# EAGLE library part ADUC7026 (library aduc-arm7)
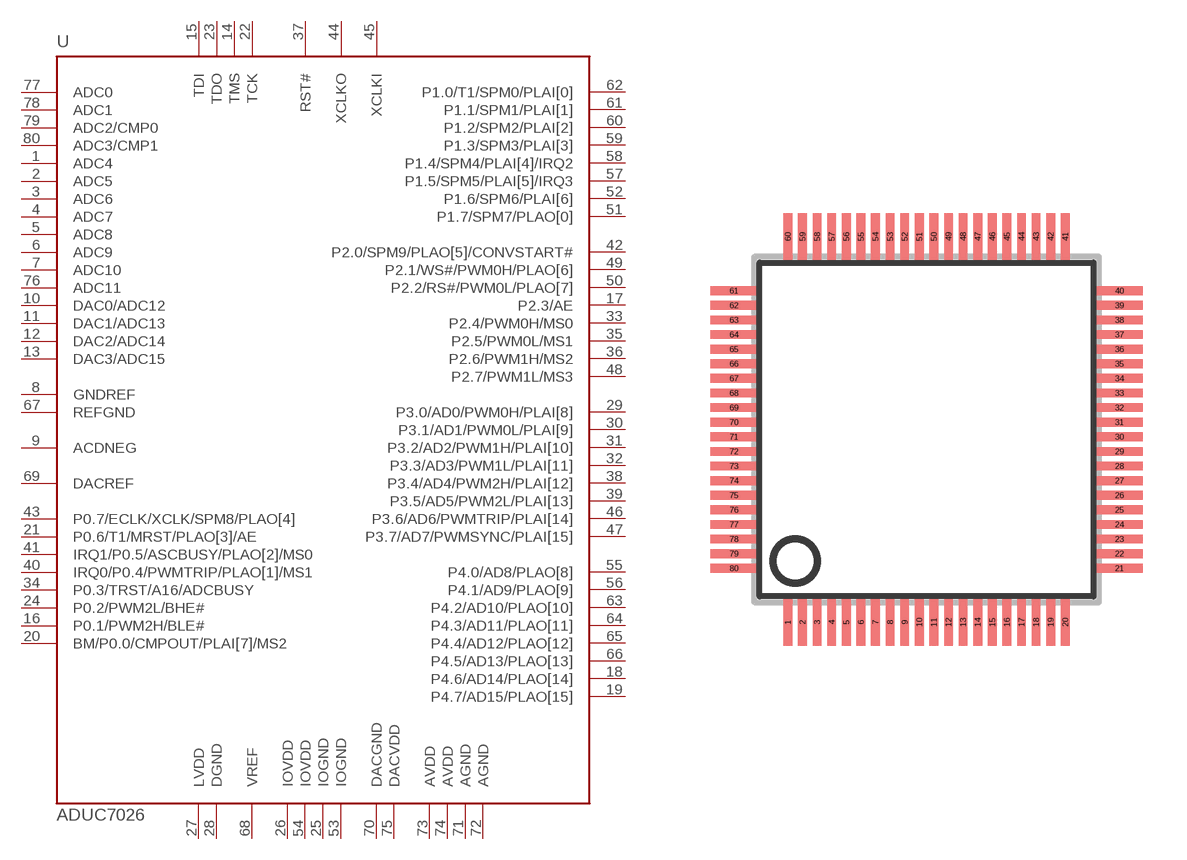
[diagram p0: symbol with the pads of SQFP-S-12X12-80; footprint SQFP-S-12X12-80]

Designator prefix -

## ADUC7026  [SQFP-S-12X12-80]
1  ADC4  in
2  ADC5  in
3  ADC6  in
4  ADC7  in
5  ADC8  in
6  ADC9  in
7  ADC10  in
8  GNDREF  in
9  ACDNEG
10  DAC0/ADC12
11  DAC1/ADC13
12  DAC2/ADC14
13  DAC3/ADC15
14  TMS  in
15  TDI  in
16  P0.1/PWM2H/BLE#
17  P2.3/AE
18  P4.6/AD14/PLAO[14]
19  P4.7/AD15/PLAO[15]
20  BM/P0.0/CMPOUT/PLAI[7]/MS2
21  P0.6/T1/MRST/PLAO[3]/AE
22  TCK  in
23  TDO  out
24  P0.2/PWM2L/BHE#
25  IOGND  pwr
26  IOVDD  pwr
27  LVDD  pwr
28  DGND  pwr
29  P3.0/AD0/PWM0H/PLAI[8]
30  P3.1/AD1/PWM0L/PLAI[9]
31  P3.2/AD2/PWM1H/PLAI[10]
32  P3.3/AD3/PWM1L/PLAI[11]
33  P2.4/PWM0H/MS0
34  P0.3/TRST/A16/ADCBUSY
35  P2.5/PWM0L/MS1
36  P2.6/PWM1H/MS2
37  RST#  in
38  P3.4/AD4/PWM2H/PLAI[12]
39  P3.5/AD5/PWM2L/PLAI[13]
40  IRQ0/P0.4/PWMTRIP/PLAO[1]/MS1
41  IRQ1/P0.5/ASCBUSY/PLAO[2]/MS0
42  P2.0/SPM9/PLAO[5]/CONVSTART#
43  P0.7/ECLK/XCLK/SPM8/PLAO[4]
44  XCLKO  out
45  XCLKI  in
46  P3.6/AD6/PWMTRIP/PLAI[14]
47  P3.7/AD7/PWMSYNC/PLAI[15]
48  P2.7/PWM1L/MS3
49  P2.1/WS#/PWM0H/PLAO[6]
50  P2.2/RS#/PWM0L/PLAO[7]
51  P1.7/SPM7/PLAO[0]
52  P1.6/SPM6/PLAI[6]
53  IOGND  pwr
54  IOVDD  pwr
55  P4.0/AD8/PLAO[8]
56  P4.1/AD9/PLAO[9]
57  P1.5/SPM5/PLAI[5]/IRQ3
58  P1.4/SPM4/PLAI[4]/IRQ2
59  P1.3/SPM3/PLAI[3]
60  P1.2/SPM2/PLAI[2]
61  P1.1/SPM1/PLAI[1]
62  P1.0/T1/SPM0/PLAI[0]
63  P4.2/AD10/PLAO[10]
64  P4.3/AD11/PLAO[11]
65  P4.4/AD12/PLAO[12]
66  P4.5/AD13/PLAO[13]
67  REFGND  in
68  VREF  pwr
69  DACREF
70  DACGND  pwr
71  AGND  pwr
72  AGND  pwr
73  AVDD  pwr
74  AVDD  pwr
75  DACVDD  pwr
76  ADC11  in
77  ADC0  in
78  ADC1  in
79  ADC2/CMP0
80  ADC3/CMP1

## Footprint SQFP-S-12X12-80 (pad centres in mm)
QFP80 shrink quad flat pack, square
smd 0.3 x 1.6: 1 -4.75,-6.6; 2 -4.25,-6.6; 3 -3.75,-6.6; 4 -3.25,-6.6; 5 -2.75,-6.6; 6 -2.25,-6.6; 7 -1.75,-6.6; 8 -1.25,-6.6; 9 -0.75,-6.6; 10 -0.25,-6.6; 11 0.25,-6.6; 12 0.75,-6.6; 13 1.25,-6.6; 14 1.75,-6.6; 15 2.25,-6.6; 16 2.75,-6.6; 17 3.25,-6.6; 18 3.75,-6.6; 19 4.25,-6.6; 20 4.75,-6.6; 41 4.75,6.6; 42 4.25,6.6; 43 3.75,6.6; 44 3.25,6.6; 45 2.75,6.6; 46 2.25,6.6; 47 1.75,6.6; 48 1.25,6.6; 49 0.75,6.6; 50 0.25,6.6; 51 -0.25,6.6; 52 -0.75,6.6; 53 -1.25,6.6; 54 -1.75,6.6; 55 -2.25,6.6; 56 -2.75,6.6; 57 -3.25,6.6; 58 -3.75,6.6; 59 -4.25,6.6; 60 -4.75,6.6
smd 1.6 x 0.3: 21 6.6,-4.75; 22 6.6,-4.25; 23 6.6,-3.75; 24 6.6,-3.25; 25 6.6,-2.75; 26 6.6,-2.25; 27 6.6,-1.75; 28 6.6,-1.25; 29 6.6,-0.75; 30 6.6,-0.25; 31 6.6,0.25; 32 6.6,0.75; 33 6.6,1.25; 34 6.6,1.75; 35 6.6,2.25; 36 6.6,2.75; 37 6.6,3.25; 38 6.6,3.75; 39 6.6,4.25; 40 6.6,4.75; 61 -6.6,4.75; 62 -6.6,4.25; 63 -6.6,3.75; 64 -6.6,3.25; 65 -6.6,2.75; 66 -6.6,2.25; 67 -6.6,1.75; 68 -6.6,1.25; 69 -6.6,0.75; 70 -6.6,0.25; 71 -6.6,-0.25; 72 -6.6,-0.75; 73 -6.6,-1.25; 74 -6.6,-1.75; 75 -6.6,-2.25; 76 -6.6,-2.75; 77 -6.6,-3.25; 78 -6.6,-3.75; 79 -6.6,-4.25; 80 -6.6,-4.75